# Altium footprint library APSS Connectors.PcbLib: 91 footprints (part 6 of 6)
Each footprint in its own frame and in the unit in brackets; x right, y up, seen from the top. Pads: shape width x height; smd on the part's side, far side on the other; paste and mask are expansions set on the pad; w line width, h text height; cw(c..) or ccw(c..) is an arc to the next point about the centre after c.
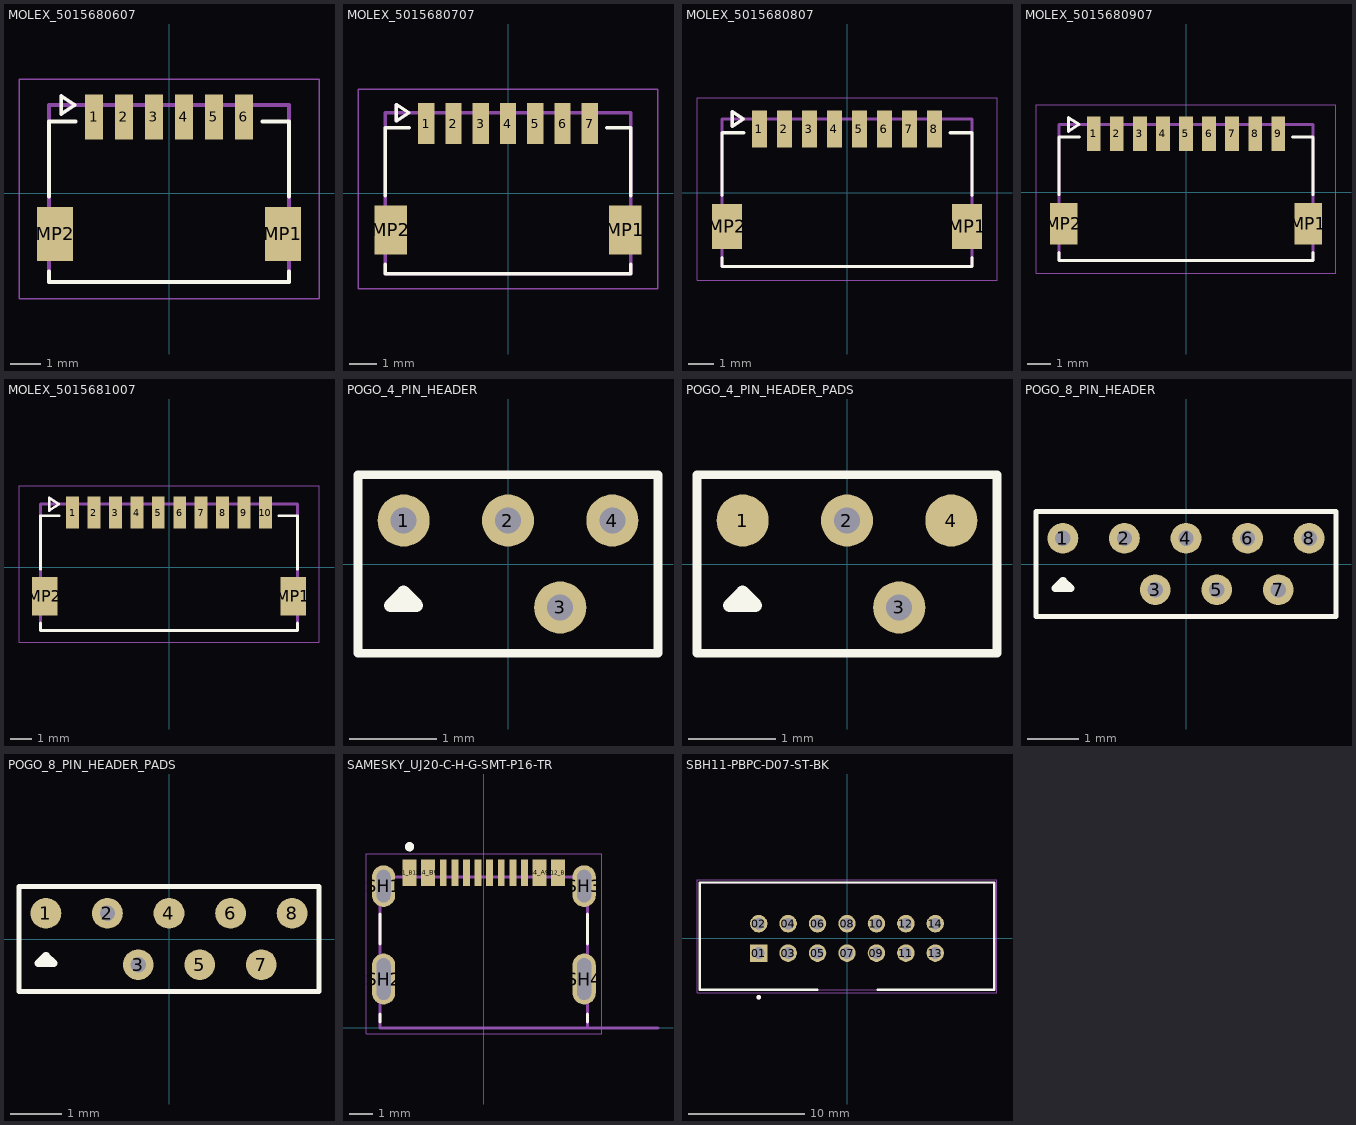
[diagram p5: the footprints below, top view; thin cyan lines are the x and y axes]

## MOLEX_5015680607 [mm] "Header - Picoclasp 06-pin, SMT, RA, 4.75mm height"
height 3.2
pads (8):
  rect 0.6x1.5 smd mask+0.076: 1(-2.5,2.55) 2(-1.5,2.55) 3(-0.5,2.55) 4(0.5,2.55) 5(1.5,2.55) 6(2.5,2.55)
  rect 1.2x1.8 smd mask+0.076: MP1(3.8,-1.35) MP2(-3.8,-1.35)
Top Overlay:
  lines w0.127: -4,-2.6 -4,-2.95 4,-2.95 4,-2.6 ; -4,-0.1 -4,2.4 -3.12,2.4 ; 3.12,2.4 4,2.4 4,-0.1 ; -3.591,2.646 -3.591,3.246 -3.141,2.946 -3.591,2.646
Mechanical 13:
  lines w0.127: -4,-2.95 4,-2.95 4,2.95 -4,2.95 -4,-2.95 ; -3.591,2.646 -3.591,3.246 -3.141,2.946 -3.591,2.646
Mechanical 15:
  lines w0.05: -5,-3.5 -5,3.8 5,3.8 5,-3.5 -5,-3.5
3D body "5015680607.STEP": height 4.7, standoff 0, extent -4,-2.95 4,2.95

## MOLEX_5015680707 [mm] "Header - Picoclasp 07-pin, SMT, RA, 4.75mm height"
height 4.75
pads (9):
  rect 0.6x1.5 smd mask+0.076: 1(-3,2.55) 2(-2,2.55) 3(-1,2.55) 4(0,2.55) 5(1,2.55) 6(2,2.55) 7(3,2.55)
  rect 1.2x1.8 smd mask+0.076: MP1(4.3,-1.35) MP2(-4.3,-1.35)
Top Overlay:
  lines w0.127: -4.5,-2.6 -4.5,-2.95 4.5,-2.95 4.5,-2.6 ; -4.5,-0.1 -4.5,2.4 -3.62,2.4 ; 3.62,2.4 4.5,2.4 4.5,-0.1 ; -4.091,2.646 -4.091,3.246 -3.641,2.946 -4.091,2.646
Mechanical 13:
  lines w0.127: -4.5,-2.95 4.5,-2.95 4.5,2.95 -4.5,2.95 -4.5,-2.95 ; -4.091,2.646 -4.091,3.246 -3.641,2.946 -4.091,2.646
Mechanical 15:
  lines w0.05: -5.5,-3.5 -5.5,3.8 5.5,3.8 5.5,-3.5 -5.5,-3.5
3D body "5015680707.stp": height 4.71, standoff 0.01, extent -4.5,-2.95 4.5,2.95

## MOLEX_5015680807 [mm] "Header - Picoclasp 08-pin, SMT, RA, 4.75mm height"
height 4.75
pads (10):
  rect 0.6x1.5 smd mask+0.076: 1(-3.5,2.55) 2(-2.5,2.55) 3(-1.5,2.55) 4(-0.5,2.55) 5(0.5,2.55) 6(1.5,2.55) 7(2.5,2.55) 8(3.5,2.55)
  rect 1.2x1.8 smd mask+0.076: MP1(4.8,-1.35) MP2(-4.8,-1.35)
Top Overlay:
  lines w0.127: -5,-2.6 -5,-2.95 5,-2.95 5,-2.6 ; -5,-0.1 -5,2.4 -4.12,2.4 ; 4.12,2.4 5,2.4 5,-0.1 ; -4.591,2.646 -4.141,2.946 -4.591,3.246 -4.591,2.646
Mechanical 13:
  lines w0.127: -5,-2.95 -5,2.95 5,2.95 5,-2.95 -5,-2.95 ; -4.591,2.646 -4.141,2.946 -4.591,3.246 -4.591,2.646
Mechanical 15:
  lines w0.05: -6,-3.5 6,-3.5 6,3.8 -6,3.8 -6,-3.5
3D body "5015680807.stp": height 4.71, standoff 0.01, extent -5,-2.95 5,2.95

## MOLEX_5015680907 [mm] "Header - Picoclasp 09-pin, SMT, RA, 4.75mm height"
height 4.75
pads (11):
  rect 0.6x1.5 smd mask+0.076: 1(-4,2.55) 2(-3,2.55) 3(-2,2.55) 4(-1,2.55) 5(0,2.55) 6(1,2.55) 7(2,2.55) 8(3,2.55) 9(4,2.55)
  rect 1.2x1.8 smd mask+0.076: MP1(5.3,-1.35) MP2(-5.3,-1.35)
Top Overlay:
  lines w0.127: -5.5,-2.6 -5.5,-2.95 5.5,-2.95 5.5,-2.6 ; -5.5,-0.1 -5.5,2.4 -4.62,2.4 ; 4.62,2.4 5.5,2.4 5.5,-0.1 ; -5.091,2.646 -5.091,3.246 -4.641,2.946 -5.091,2.646
Mechanical 13:
  lines w0.127: -5.5,-2.95 5.5,-2.95 5.5,2.95 -5.5,2.95 -5.5,-2.95 ; -5.091,2.646 -5.091,3.246 -4.641,2.946 -5.091,2.646
Mechanical 15:
  lines w0.05: -6.5,-3.5 -6.5,3.8 6.5,3.8 6.5,-3.5 -6.5,-3.5
3D body "5015680907.stp": height 4.71, standoff 0.01, extent -5.5,-2.95 5.5,2.95

## MOLEX_5015681007 [mm] "Header - Picoclasp 10-pin, SMT, RA, 4.75mm height"
height 4.75
pads (12):
  rect 0.6x1.5 smd mask+0.076: 1(-4.5,2.55) 2(-3.5,2.55) 3(-2.5,2.55) 4(-1.5,2.55) 5(-0.5,2.55) 6(0.5,2.55) 7(1.5,2.55) 8(2.5,2.55) 9(3.5,2.55) 10(4.5,2.55)
  rect 1.2x1.8 smd mask+0.076: MP1(5.8,-1.35) MP2(-5.8,-1.35)
Top Overlay:
  lines w0.127: -6,-2.6 -6,-2.95 6,-2.95 6,-2.6 ; -6,-0.1 -6,2.4 -5.12,2.4 ; 5.12,2.4 6,2.4 6,-0.1 ; -5.591,2.646 -5.591,3.246 -5.141,2.946 -5.591,2.646
Mechanical 13:
  lines w0.127: 0,-2.95 -6,-2.95 -6,2.95 6,2.95 6,-2.95 ; -5.591,2.646 -5.591,3.246 -5.141,2.946 -5.591,2.646
Mechanical 15:
  lines w0.05: -7,-3.5 -7,3.8 7,3.8 7,-3.5 -7,-3.5
3D body "5015681007.stp": height 4.71, standoff 0.01, extent -6,-2.95 6,2.95

## POGO_4_PIN_HEADER [mm] "4-pin header for pogo pins"
pads (4):
  round 0.6 hole 0.3 mask+0.051: 1(-1.2,0.5) 2(0,0.5) 3(0.6,-0.5) 4(1.2,0.5)
Top Overlay:
  lines w0.1: -1.725,-1.025 1.725,-1.025 1.725,1.025 -1.725,1.025 -1.725,-1.025
  lines w0.15: -1.35,-0.475 -1.05,-0.475 -1.2,-0.325 -1.35,-0.475
Mechanical 15:
  lines w0.05: -1.725,-1.025 -1.725,1.025 1.725,1.025 1.725,-1.025 -1.725,-1.025

## POGO_4_PIN_HEADER_PADS [mm] "4-pin header for pogo pins. Two locating vias, the rest are pads"
pads (4):
  round 0.6 smd mask+0.051: 1(-1.2,0.5) 4(1.2,0.5)
  round 0.6 hole 0.3 mask+0.051: 2(0,0.5) 3(0.6,-0.5)
Top Overlay:
  lines w0.1: -1.725,-1.025 1.725,-1.025 1.725,1.025 -1.725,1.025 -1.725,-1.025
  lines w0.15: -1.35,-0.475 -1.05,-0.475 -1.2,-0.325 -1.35,-0.475
Mechanical 15:
  lines w0.05: -1.725,-1.025 -1.725,1.025 1.725,1.025 1.725,-1.025 -1.725,-1.025

## POGO_8_PIN_HEADER [mm] "8-pin header for pogo pins"
pads (8):
  round 0.6 hole 0.3 mask+0.051: 1(-2.4,0.5) 2(-1.2,0.5) 3(-0.6,-0.5) 4(0,0.5) 5(0.6,-0.5) 6(1.2,0.5) 7(1.8,-0.5) 8(2.4,0.5)
Top Overlay:
  lines w0.1: -2.925,-1.025 -2.925,1.025 2.925,1.025 2.925,-1.025 -2.925,-1.025
  lines w0.15: -2.55,-0.475 -2.4,-0.325 -2.25,-0.475 -2.55,-0.475
Mechanical 15:
  lines w0.05: -2.925,-1.025 -2.925,1.025 2.925,1.025 2.925,-1.025 -2.925,-1.025

## POGO_8_PIN_HEADER_PADS [mm] "8-pin header for pogo pins. Two locating vias, the rest are pads"
pads (8):
  round 0.6 smd mask+0.051: 1(-2.4,0.5) 4(0,0.5) 5(0.6,-0.5) 6(1.2,0.5) 7(1.8,-0.5) 8(2.4,0.5)
  round 0.6 hole 0.3 mask+0.051: 2(-1.2,0.5) 3(-0.6,-0.5)
Top Overlay:
  lines w0.1: -2.925,-1.025 2.925,-1.025 2.925,1.025 -2.925,1.025 -2.925,-1.025
  lines w0.15: -2.55,-0.475 -2.25,-0.475 -2.4,-0.325 -2.55,-0.475
Mechanical 15:
  lines w0.05: -2.925,-1.025 2.925,-1.025 2.925,1.025 -2.925,1.025 -2.925,-1.025

## SAMESKY_UJ20-C-H-G-SMT-P16-TR [mm]
height 3.36
pads (16):
  rect 0.595x1.15 smd mask+0.051: A1_B12(-3.2,6.675) A4_B9(-2.4,6.675) A12_B1(3.2,6.675) B4_A9(2.4,6.675)
  rect 0.295x1.15 smd mask+0.051: A5(-1.75,6.675) A6(-0.75,6.675) A7(0.75,6.675) A8(1.75,6.675) B5(1.25,6.675) B6(0.25,6.675) B7(-0.25,6.675) B8(-1.25,6.675)
  oval 1x1.8 hole 0.6 slot 1.4 at 90 deg: SH1(-4.32,6.1) SH3(4.32,6.1)
  oval 1x2.2 hole 0.6 slot 1.8 at 90 deg: SH2(-4.32,2.1) SH4(4.32,2.1)
Top Overlay:
  circle w0.2: c-3.2,7.8 r0.1
  lines w0.127: -4.47,0.254 -4.47,0.6 ; -4.47,3.6 -4.47,4.9 ; 4.47,0.254 4.47,0.6 ; 4.47,3.6 4.47,4.9
Mechanical 13:
  circle w0.2: c-3.2,7.8 r0.1
  lines w0.127: 7.5,0 4.47,0 ; 4.47,0 -4.47,0 -4.47,6.5 4.47,6.5 4.47,0
  text "PCB EDGE" at 5.2,0.2 h1
Mechanical 15:
  lines w0.05: -5.07,-0.25 -5.07,7.5 5.07,7.5 5.07,-0.25 -5.07,-0.25
3D body "step_temp.STEP": height 3.31, standoff -1.1, extent -4.47,-0.695 4.47,7.015
3D body: height 0, standoff -1.6, extent -4.492,5.529 -4.179,6.672
3D body: height 0, standoff -1.6, extent 4.179,5.529 4.492,6.672
3D body: height 0, standoff -1.6, extent 4.162,1.541 4.474,2.726
3D body: height 0, standoff -1.6, extent -4.474,1.541 -4.162,2.726

## SBH11-PBPC-D07-ST-BK [mm]
pads (14):
  rect 1.508x1.508 hole 1.02: 01(-7.62,-1.27)
  round 1.508 hole 1.02: 02(-7.62,1.27) 03(-5.08,-1.27) 04(-5.08,1.27) 05(-2.54,-1.27) 06(-2.54,1.27) 07(0,-1.27) 08(0,1.27) 09(2.54,-1.27) 10(2.54,1.27) 11(5.08,-1.27) 12(5.08,1.27) 13(7.62,-1.27) 14(7.62,1.27)
Top Overlay:
  circle w0.2: c-7.62,-5.08 r0.1
  lines w0.2: -2.54,-4.445 -12.7,-4.445 -12.7,4.825 12.7,4.825 12.7,-4.445 2.667,-4.445
Mechanical 13:
  circle w0.2: c-7.62,-5.08 r0.1
  lines w0.1: -12.7,-4.445 12.7,-4.445 12.7,4.825 -12.7,4.825 -12.7,-4.445
Mechanical 15:
  lines w0.05: -12.95,-4.695 12.95,-4.695 12.95,5.075 -12.95,5.075 -12.95,-4.695
3D body "HTST-107-02-S-D.stp": height 8.89, standoff -4.57, extent -12.7,-4.445 12.7,4.826